# Altium schematic symbol library wifigyro.SchLib: 6 symbols
Pins are listed as number, name and electrical type; pins without a type are passive.

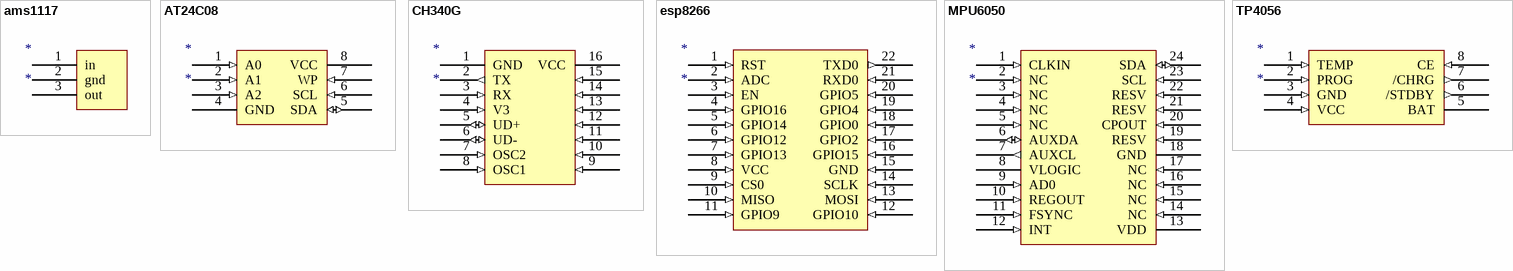
[diagram p0: symbols ams1117 to TP4056]

## ams1117
designator *
pins: 1 in (power), 2 gnd (power), 3 out (power)

## AT24C08
designator *
pins: 1 A0 (in), 2 A1 (in), 3 A2 (in), 4 GND (power), 5 SDA (io), 6 SCL (in), 7 WP (in), 8 VCC (power)

## CH340G
designator *
pins: 1 GND (power), 2 TX (out), 3 RX (in), 4 V3 (in), 5 UD+ (io), 6 UD- (io), 7 OSC2 (in), 8 OSC1 (in), 9 (in), 10 (in), 11 (in), 12 (in), 13 (in), 14 (in), 15 (in), 16 VCC (power)

## esp8266
designator *
pins: 1 RST (in), 2 ADC (in), 3 EN (in), 4 GPIO16 (in), 5 GPIO14 (in), 6 GPIO12 (in), 7 GPIO13 (in), 8 VCC (in), 9 CS0 (in), 10 MISO (in), 11 GPIO9 (in), 12 GPIO10 (in), 13 MOSI (in), 14 SCLK (in), 15 GND (in), 16 GPIO15 (in), 17 GPIO2 (in), 18 GPIO0 (in), 19 GPIO4 (in), 20 GPIO5 (in), 21 RXD0 (in), 22 TXD0 (out)

## MPU6050
designator *
pins: 1 CLKIN (in), 2 NC (in), 3 NC (in), 4 NC (in), 5 NC (in), 6 AUXDA (io), 7 AUXCL (out), 8 VLOGIC (power), 9 AD0 (in), 10 REGOUT (in), 11 FSYNC (in), 12 INT (in), 13 VDD (power), 14 NC (in), 15 NC (in), 16 NC (in), 17 NC (in), 18 GND (power), 19 RESV (in), 20 CPOUT (in), 21 RESV (in), 22 RESV (in), 23 SCL (in), 24 SDA (io)

## TP4056
designator *
pins: 1 TEMP (in), 2 PROG (in), 3 GND (in), 4 VCC (in), 5 BAT (power), 6 /STDBY (out), 7 /CHRG (out), 8 CE (in)